# Altium footprint library PcbLib1.PcbLib: 19 footprints (part 1 of 2)
Each footprint in its own frame and in the unit in brackets; x right, y up, seen from the top. Pads: shape width x height; smd on the part's side, far side on the other; paste and mask are expansions set on the pad; w line width, h text height; cw(c..) or ccw(c..) is an arc to the next point about the centre after c.
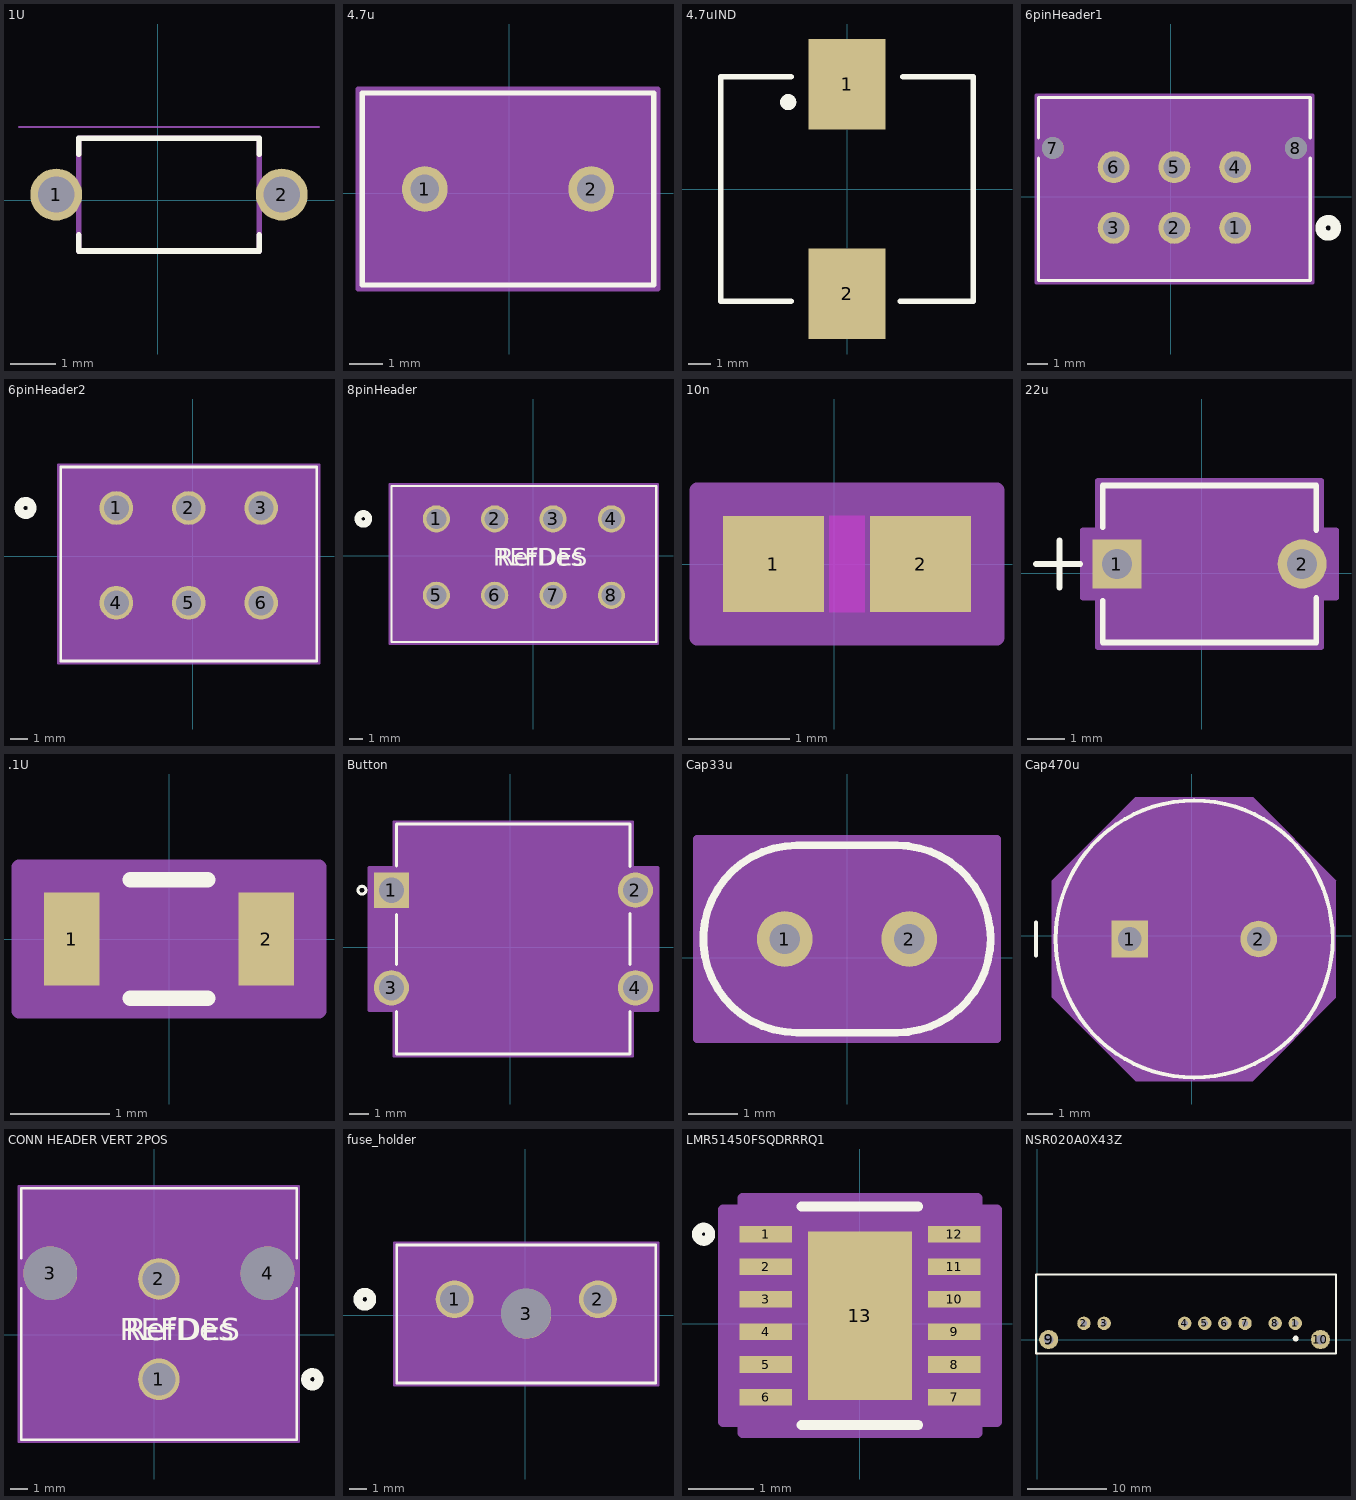
[diagram p0: the footprints below, top view; thin cyan lines are the x and y axes]

## 1U [mm]
pads (2):
  round 1.15 hole 0.8: 1(-2.246,0.127) 2(2.754,0.127)
Top Overlay:
  lines w0.127: -1.746,-0.768 -1.746,-1.123 2.254,-1.123 2.254,-0.768 ; -1.746,1.022 -1.746,1.377 2.254,1.377 2.254,1.022
Mechanical 13:
  lines w0.127: -1.746,-1.123 -1.746,1.377 2.254,1.377 2.254,-1.123 -1.746,-1.123
Mechanical 15:
  lines w0.05: -3.071,1.627 3.579,1.627
3D body "step_temp.STEP": height 5.5, standoff -9, extent -2.496,-1.123 3.004,1.377

## 4.7u [mil]
pads (2):
  round 54 hole 34 paste-99999 mask+0: 1(-100,5) 2(96.85,5)
Top Overlay:
  lines w6: -174.07,-108.5 170.93,-108.5 170.93,118.5 -174.07,118.5 -174.07,-108.5
  text ".Designator" at -139.07,-20 h50
Mechanical 13:
  lines w1: -169.07,-103.5 165.93,-103.5 165.93,113.5 -169.07,113.5 -169.07,-103.5
  text ".Designator" at -139.07,-20 h50
Mechanical 15:
  region: 175.93,-113.5 -179.07,-113.5 -179.07,123.5 175.93,123.5
  lines w6: -179.07,-113.5 -179.07,123.5 175.93,123.5 175.93,-113.5 -179.07,-113.5
3D body "CAP_FG24_TDK.step": height 432.99, standoff -172.01, extent -169.06,-103.5 165.94,113.5

## 4.7uIND [mm]
pads (2):
  rect 3.5x4.1 smd paste-2539.97 mask+0: 1(0,4.75) 2(0,-4.75)
Top Overlay:
  circle w0.374: c-2.667,3.937 r0.18
  lines w0.254: -2.54,-5.08 -5.715,-5.08 -5.715,5.08 -2.54,5.08 ; 2.413,-5.08 5.715,-5.08 5.715,5.08 2.54,5.08
Top Paste:
  region: -0.762,-5.512 -0.762,-3.988 0.762,-3.988 0.762,-5.512
Top Solder:
  region: -0.762,-5.512 -0.762,-3.988 0.762,-3.988 0.762,-5.512
  circle w0.762: c0,-4.75 r0.381
  region: -0.762,3.988 -0.762,5.512 0.762,5.512 0.762,3.988
  circle w0.762: c0,4.75 r0.381

## 6pinHeader1 [mil]
pads (8):
  round 62 hole 42 paste-99999 mask+0: 1(125,-60) 2(6.89,-60) 3(-111.22,-60) 4(125,58.11) 5(6.89,58.11) 6(-111.22,58.11)
  round 42 hole 42 unplated paste-99999 mask+0: 7(-229.33,95.12) 8(243.11,95.12)
Top Overlay:
  circle w20: c305.89,-60 r15
  lines w6: -257.11,75.34 -257.11,-161.97 270.89,-161.97 270.89,75.34 ; -257.11,114.89 -257.11,193.03 270.89,193.03 270.89,114.89
  text ".Designator" at -130.61,-25.94 h50
Bottom Overlay:
  circle w20: c305.89,-60 r15
Mechanical 13:
  circle w20: c125,-60 r15
  lines w1: -252.11,-156.97 -252.11,188.03 265.89,188.03 265.89,-156.97 -252.11,-156.97
  text ".Designator" at -130.61,-25.94 h50
Mechanical 15:
  region: 275.89,198.03 -262.11,198.03 -262.11,-166.97 275.89,-166.97
  lines w6: -262.11,-166.97 275.89,-166.97 275.89,198.03 -262.11,198.03 -262.11,-166.97

## 6pinHeader2 [mil]
pads (6):
  round 77 hole 57 paste-99999 mask+0: 1(-174.79,110.48) 2(-9.44,110.48) 3(155.92,110.48) 4(-174.79,-106.06) 5(-9.44,-106.06) 6(155.92,-106.06)
Top Overlay:
  circle w20: c-381.94,110.48 r15
  lines w6: -301.94,-238.94 283.06,-238.94 283.06,204.06 -301.94,204.06 -301.94,-238.94
  text ".Designator" at -146.94,-22.79 h50
Bottom Overlay:
  circle w20: c-381.94,110.48 r15
Mechanical 13:
  circle w20: c-174.79,110.48 r15
  lines w1: -296.94,-233.94 278.06,-233.94 278.06,199.06 -296.94,199.06 -296.94,-233.94
  text ".Designator" at -146.94,-22.79 h50
Mechanical 15:
  region: 288.06,209.06 -306.94,209.06 -306.94,-243.94 288.06,-243.94
  lines w6: -306.94,-243.94 -306.94,209.06 288.06,209.06 288.06,-243.94 -306.94,-243.94

## 8pinHeader [mil]
pads (8):
  round 77 / inner round 77.01 / far side round 77 hole 57 paste-99999 mask+0: 1(-275,105) 2(-109.65,105) 3(55.71,105) 4(221.06,105) 5(-275,-111.54) 6(-109.65,-111.54) 7(55.71,-111.54) 8(221.06,-111.54)
Top Overlay:
  circle w20: c-481.97,105 r15
  lines w6: -401.97,-244.42 348.03,-244.42 348.03,198.58 -401.97,198.58 -401.97,-244.42
  text "RefDes" at -101.97,-28.27 h50
  text "REFDES" at -114.47,-28.27 h50
Bottom Overlay:
  circle w20: c-481.97,105 r15
Mechanical 13:
  circle w20: c-275,105 r15
  lines w1: -396.97,-239.42 343.03,-239.42 343.03,193.58 -396.97,193.58 -396.97,-239.42
  text "RefDes2" at -114.47,-28.27 h50
Mechanical 15:
  region: 353.03,203.58 -406.97,203.58 -406.97,-249.42 353.03,-249.42
  lines w6: -406.97,-249.42 -406.97,203.58 353.03,203.58 353.03,-249.42 -406.97,-249.42

## 10n [mm]
pads (2):
  rect 1x0.95 smd paste+0 mask+0: 1(-0.598,0) 2(0.852,0)
Top Layer keep-out:
  region: -0.047,-0.424 -0.047,0.424 0.301,0.424 0.301,-0.424
Top Overlay:
  text ".Designator" at -3.365,-0.635 h1.27
Keep-Out Layer:
  region: -0.047,-0.475 -0.047,0.475 0.301,0.475 0.301,-0.475
Mechanical 13:
  lines w0.025: -0.748,-0.475 -0.748,0.475 ; -0.748,-0.475 1.002,-0.475 ; -0.748,-0.475 -0.248,-0.475 -0.248,0.475 -0.748,0.475 ; -0.748,-0.475 -0.748,0.475 ; -0.748,0.475 1.002,0.475 ; 1.002,-0.475 1.002,0.475 ; 1.002,-0.475 1.002,0.475 ; 1.002,-0.475 0.502,-0.475 0.502,0.475 1.002,0.475
  text ".Designator" at -3.365,-0.635 h1.27
Mechanical 15:
  region: 1.606,-0.729 -1.352,-0.729 -1.352,0.729 1.606,0.729
  lines w0.152: -1.352,-0.729 1.606,-0.729 1.606,0.729 -1.352,0.729 -1.352,-0.729
3D body "CAPC17595_87N_KEM.step": height 0.87, standoff 0, extent -0.748,-0.475 1.002,0.475

## 22u [mil]
pads (2):
  rect 52x52 hole 32 paste-99999 mask+0: 1(-90,10)
  round 52 hole 32 paste-99999 mask+0: 2(106.85,10)
Top Overlay:
  lines w6: -176,10 -129.1,10 ; -151,-15 -151,35 ; -105.07,-29.1 -105.07,-73.5 121.93,-73.5 121.93,-26.08 ; -105.07,49.1 -105.07,93.5 121.93,93.5 121.93,46.08
  text ".Designator" at -129.07,-15 h50
Mechanical 13:
  lines w1: -176,10 -126,10 ; -151,-15 -151,35 ; -100.07,-68.5 -100.07,88.5 116.93,88.5 116.93,-68.5 -100.07,-68.5
  text ".Designator" at -129.07,-15 h50
Mechanical 15:
  region: 126.93,-78.5 -110.07,-78.5 -110.07,98.5 126.93,98.5
  region: 116.93,-68.5 -100.07,-68.5 -100.07,88.5 116.93,88.5
  region: 116.93,-26 142.85,-26 142.85,46 116.93,46
  region: -100.07,-26 -126,-26 -126,46 -100.07,46
  lines w6: -126,-26 -110.07,-26 -110.07,-78.5 126.93,-78.5 126.93,-26 142.85,-26 142.85,46 126.93,46 126.93,98.5 -110.07,98.5 -110.07,46 -126,46 -126,-26

## .1U [mil]
pads (2):
  rect 22x37 smd paste+0 mask+0: 1(-38.5,0) 2(38.5,0)
Top Overlay:
  lines w6: -15.39,-23.5 15.39,-23.5 ; -15.39,23.5 15.39,23.5
  text ".Designator" at -137.5,-25 h50
Mechanical 13:
  lines w1: -35.5,-18.5 -35.5,18.5 ; -35.5,-18.5 -27.5,-18.5 -27.5,18.5 -35.5,18.5 ; -35.5,-18.5 35.5,-18.5 ; -35.5,-18.5 -35.5,18.5 ; -35.5,18.5 35.5,18.5 ; 35.5,-18.5 27.5,-18.5 27.5,18.5 35.5,18.5 ; 35.5,-18.5 35.5,18.5 ; 35.5,-18.5 35.5,18.5
  text ".Designator" at -137.5,-25 h50
Mechanical 15:
  region: 59.5,-28.5 -59.5,-28.5 -59.5,28.5 59.5,28.5
  lines w6: -59.5,-28.5 -59.5,28.5 59.5,28.5 59.5,-28.5 -59.5,-28.5
3D body "CAP_C1608_TDK.step": height 37.01, standoff 0, extent -35.51,-18.5 35.51,18.5

## Button [mil]
pads (4):
  rect 71x71 / inner round 70.98 / far side rect 71x71 hole 51 paste-99999 mask+0: 1(-240,115)
  round 71 / inner round 70.98 / far side round 71 hole 51 paste-99999 mask+0: 2(252.13,115) 3(-240,-81.85) 4(252.13,-81.85)
Top Overlay:
  circle w6: c-299.44,115 r8
  lines w6: -229.44,-129.29 -229.44,-214.93 241.56,-214.93 241.56,-129.29 ; -229.44,-34.41 -229.44,66.4 ; -229.44,163.6 -229.44,248.07 241.56,248.07 241.56,162.44 ; 241.56,-34.41 241.56,67.56
Mechanical 13:
  circle w0: c6.06,16.57 r75
  circle w6: c-224.44,215 r8
  lines w1: -265.5,-107.35 -224.44,-107.35 -224.44,-56.35 -265.5,-56.35 -265.5,-107.35 ; -265.5,89.5 -224.44,89.5 -224.44,140.5 -265.5,140.5 -265.5,89.5 ; -224.44,-209.93 -224.44,243.07 236.56,243.07 236.56,-209.93 -224.44,-209.93 ; 236.56,-107.35 277.63,-107.35 277.63,-56.35 236.56,-56.35 236.56,-107.35 ; 236.56,89.5 277.63,89.5 277.63,140.5 236.56,140.5 236.56,89.5
Mechanical 15:
  region: -234.44,-127.35 -285.5,-127.35 -285.5,160.5 -234.44,160.5 -234.44,253.07 246.56,253.07 246.56,160.5 297.63,160.5 297.63,-127.35 246.56,-127.35 246.56,-219.93 -234.44,-219.93
  lines w6: -285.5,-127.35 -234.44,-127.35 -234.44,-219.93 246.56,-219.93 246.56,-127.35 297.63,-127.35 297.63,160.5 246.56,160.5 246.56,253.07 -234.44,253.07 -234.44,160.5 -285.5,160.5 -285.5,-127.35

## Cap33u [mil]
pads (2):
  round 44 hole 24 paste-99999 mask+0: 1(-49.21,15) 2(49.21,15)
Top Overlay:
  lines w6: -39.5,-59 cw(c-39.5,15) -39.5,89 39.5,89 cw(c39.5,15) 113.5,15 cw(c39.5,15) 39.5,-59 -39.5,-59
  text ".Designator" at -137.5,-10 h50
Mechanical 13:
  lines w1: -39.5,-54 cw(c-39.5,15) -39.5,84 39.5,84 cw(c39.5,15) 39.5,-54 -39.5,-54
  text ".Designator" at -137.5,-10 h50
Mechanical 15:
  region: 118.5,-64 -118.5,-64 -118.5,94 118.5,94
  lines w6: -118.5,-64 -118.5,94 118.5,94 118.5,-64 -118.5,-64
3D body "CAP_FG16X5R1E336MRT06_TDK.step": height 235.98, standoff -139.84, extent -59.29,-54.02 157.72,84.02

## Cap470u [mil]
pads (2):
  rect 56x56 hole 36 paste-99999 mask+0: 1(-95,-5)
  round 56 hole 36 paste-99999 mask+0: 2(102,-5)
Top Overlay:
  circle w6: c3.5,-5 r211.5
  lines w6: -238,-30 -238,20
Mechanical 13:
  circle w1: c3.5,-5 r206.5
  lines w1: -238,-30 -238,20
Mechanical 15:
  region: -213,84.15 -85.65,211.5 92.65,211.5 220,84.15 220,-94.15 92.65,-221.5 -85.65,-221.5 -213,-94.15
  lines w1: -213,-94.15 -213,84.15 -85.65,211.5 92.65,211.5 220,84.15 220,-94.15 92.65,-221.5 -85.65,-221.5 -213,-94.15
3D body "CAP_PAN_10X125_PAN.step": height 532.6, standoff -177.99, extent -202.99,-211.02 210.96,201.02

## CONN HEADER VERT 2POS [mil]
pads (4):
  round 93 / inner round 60 / far side round 93 hole 73 paste-99999 mask+0: 1(10,-100) 2(10,124.41)
  round 120 / inner round 60 / far side round 120 hole 120 unplated paste-99999 mask+0: 3(-232.91,137.2) 4(252.91,137.2)
Top Overlay:
  circle w20: c353,-100 r15
  lines w6: -298,103.93 -298,-234.95 318,-234.95 318,103.93 ; -298,170.48 -298,327.05 318,327.05 318,170.48
  text "REFDES" at -77.5,-12.8 h50
  text "RefDes" at -65,-12.8 h50
Bottom Overlay:
  circle w20: c353,-100 r15
Mechanical 13:
  circle w20: c10,-100 r15
  lines w1: -293,-229.95 -293,322.05 313,322.05 313,-229.95 -293,-229.95
  text "RefDes2" at -77.5,-12.8 h50
Mechanical 15:
  region: 323,332.05 -303,332.05 -303,-239.95 323,-239.95
  lines w6: -303,-239.95 323,-239.95 323,332.05 -303,332.05 -303,-239.95

## fuse_holder [mil]
pads (3):
  round 83 hole 63 paste-99999 mask+0: 1(-155,35) 2(159.96,35)
  round 110 hole 110 unplated paste-99999 mask+0: 3(2.48,3.5)
Top Overlay:
  circle w20: c-352.02,35 r15
  lines w6: -282.02,-148.83 -282.02,154.17 286.98,154.17 286.98,-148.83 -282.02,-148.83
  text ".Designator" at -135.02,10 h50
Bottom Overlay:
  circle w20: c-352.02,35 r15
Mechanical 13:
  circle w20: c-155,110 r15
  lines w1: -277.02,-143.83 -277.02,149.17 281.98,149.17 281.98,-143.83 -277.02,-143.83
  text ".Designator" at -135.02,10 h50
Mechanical 15:
  region: 291.98,159.17 -287.02,159.17 -287.02,-153.83 291.98,-153.83
  lines w6: -287.02,-153.83 291.98,-153.83 291.98,159.17 -287.02,159.17 -287.02,-153.83

## LMR51450FSQDRRRQ1 [mil]
pads (13):
  rect 31.81x10.03 smd paste+0 mask+0: 1(-56.91,54.23) 2(-56.91,34.53) 3(-56.91,14.85) 4(-56.91,-4.84) 5(-56.91,-24.54) 6(-56.91,-44.23) 7(56.91,-44.23) 8(56.91,-24.54) 9(56.91,-4.84) 10(56.91,14.85) 11(56.91,34.53) 12(56.91,54.23)
  rect 63x102 smd paste+0 mask+0: 13(0,5)
Top Overlay:
  circle w6: c-94.5,54.23 r4
  lines w6: -35.23,-61 35.23,-61 ; -35.23,71 35.23,71
  text ".Designator" at -137.5,-20 h50
Top Paste:
  region: 27.56,1.06 -27.56,1.06 -27.56,-42.06 27.56,-42.06
  region: 27.56,52.06 -27.56,52.06 -27.56,8.94 27.56,8.94
Mechanical 13:
  circle w1: c-41,54.23 r3
  lines w1: -12,66 ccw(c0,66) 12,66 ; -61,-56 -61,66 61,66 61,-56 -61,-56
  text ".Designator" at -137.5,-20 h50
Mechanical 15:
  region: -71,-59.24 -82.81,-59.24 -82.81,69.24 -71,69.24 -71,76 71,76 71,69.24 82.81,69.24 82.81,-59.24 71,-59.24 71,-66 -71,-66
  lines w6: -82.81,-59.24 -71,-59.24 -71,-66 71,-66 71,-59.24 82.81,-59.24 82.81,69.24 71,69.24 71,76 -71,76 -71,69.24 -82.81,69.24 -82.81,-59.24
3D body "WSON12_DRR_TEX.step": height 32.09, standoff 0, extent -60.98,-55.98 60.98,65.98

## NSR020A0X43Z [mm]
pads (10):
  round 1.7 hole 0.8: 1(32.59,2.05) 2(5.92,2.05) 3(8.46,2.05) 4(18.62,2.05) 5(21.16,2.05) 6(23.7,2.05) 7(26.24,2.05) 8(30.05,2.05)
  round 2.4 hole 1.2: 9(1.47,0) 10(35.76,0)
Top Overlay:
  circle w0.4: c32.639,0.127 r0.18
  lines w0.254: -0.127,-1.778 37.719,-1.778 37.719,8.222 -0.127,8.222 -0.127,-1.778